# Altium schematic symbol library LM1117DTX-3.3.Schlib: 1 symbol
Pins are listed as number, name and electrical type; pins without a type are passive.

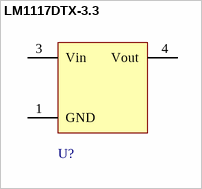
[diagram p0: symbol LM1117DTX-3.3]

## LM1117DTX-3.3
designator U?
800-mA, Low-Dropout Linear Regulator
pins: 1 GND (power), 3 Vin (power), 4 Vout (power)